# Altium schematic symbol library KXOB25-14X1F.SchLib: 1 symbol
Pins are listed as number, name and electrical type; pins without a type are passive.

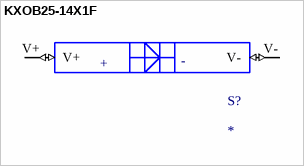
[diagram p0: symbol KXOB25-14X1F]

## KXOB25-14X1F
designator S?
MONOCRYS SOLAR CELL 30.7MW 690MV; MP: KXOB25-14X1F; MF: ANYSOLAR Ltd; Price: None; Availability: Bad; SnapEDA_Link: https://www.snapeda.com/parts/KXOB25-14X1F/Sola/view-part/5163586/?ref=snap; Value: *; Package: None; Check_prices: https://www.snapeda.com/parts/KXOB25-14X1F/Sola/view-part/5163586/?ref=eda
footprint KXOB25-14X1F
pins: V+ (io), V- (io)
text: +; -